# Altium footprint library 61002418221.PcbLib: 1 footprints
Each footprint in its own frame and in the unit in brackets; x right, y up, seen from the top. Pads: shape width x height; smd on the part's side, far side on the other; paste and mask are expansions set on the pad; w line width, h text height; cw(c..) or ccw(c..) is an arc to the next point about the centre after c.
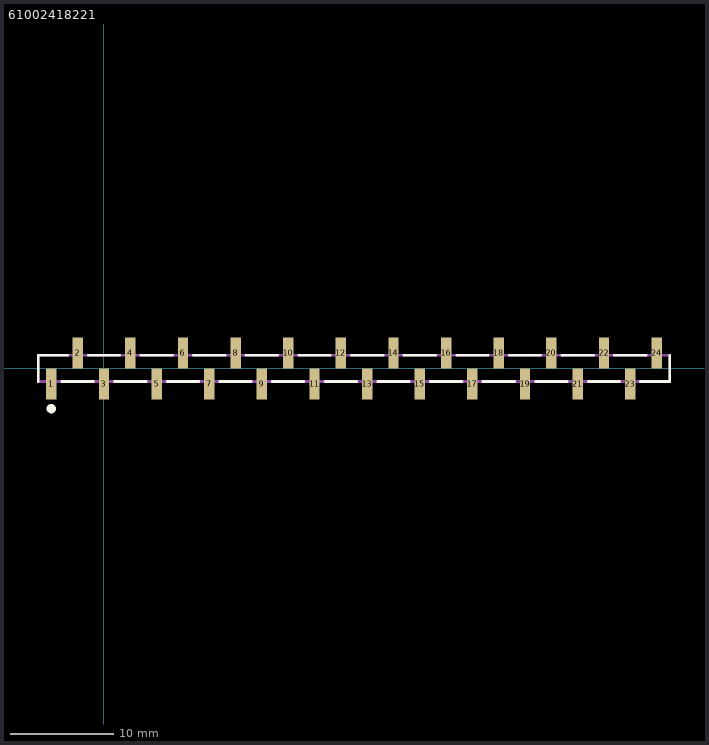
[diagram p0: the footprint, top view; thin cyan lines are the x and y axes]

## 61002418221 [mm]
pads (24):
  rect 1x3 smd: 1(-5.08,-1.5) 2(-2.54,1.5) 3(0,-1.5) 4(2.54,1.5) 5(5.08,-1.5) 6(7.62,1.5) 7(10.16,-1.5) 8(12.7,1.5) 9(15.24,-1.5) 10(17.78,1.5) 11(20.32,-1.5) 12(22.86,1.5) 13(25.4,-1.5) 14(27.94,1.5) 15(30.48,-1.5) 16(33.02,1.5) 17(35.56,-1.5) 18(38.1,1.5) 19(40.64,-1.5) 20(43.18,1.5) 21(45.72,-1.5) 22(48.26,1.5) 23(50.8,-1.5) 24(53.34,1.5)
L26-Silk Screen Top (Multiple PADS layers...):
  circle w0.5: c-5.089,-3.896 r0.198
  lines w0.254: -6.35,-1.27 -6.35,1.27 -3.498,1.27 ; -4.07,-1.27 -1.01,-1.27 ; -1.53,1.27 1.53,1.27 ; 1.01,-1.27 4.07,-1.27 ; 3.55,1.27 6.61,1.27 ; 6.09,-1.27 9.15,-1.27 ; 8.63,1.27 11.69,1.27 ; 11.17,-1.27 14.23,-1.27 ; 13.71,1.27 16.77,1.27 ; 16.25,-1.27 19.31,-1.27 ; 18.79,1.27 21.85,1.27 ; 21.33,-1.27 24.39,-1.27 ; 23.87,1.27 26.93,1.27 ; 26.41,-1.27 29.47,-1.27 ; 28.95,1.27 32.01,1.27 ; 31.49,-1.27 34.55,-1.27 ; 34.03,1.27 37.09,1.27 ; 36.57,-1.27 39.63,-1.27 ; 39.11,1.27 42.17,1.27 ; 41.65,-1.27 44.71,-1.27 ; 44.19,1.27 47.25,1.27 ; 46.73,-1.27 49.79,-1.27 ; 49.27,1.27 52.33,1.27 ; 51.757,-1.27 54.61,-1.27 54.61,1.27
L15 (Multiple PADS layers...):
  lines w0.254: -6.35,-1.27 54.61,-1.27 54.61,1.27 -6.35,1.27 -6.35,-1.27